# EAGLE library part LB1948MC (library talons-actuation)
ON Semiconductor LB1948MC: Two Channel 12V Motor Driver Manufacturer <http://www.onsemi.com/PowerSolutions/product.do?id=LB1948MC> Octopart <https://octopart.com/lb1948mc-ah-on+semiconductor-22302631> Farnell.de <http://de.farnell.com/on-semiconductor/lb1948mc-ah/treiber-motor-2ch-fwd-rvrs-mfp10sk/dp/2137871>
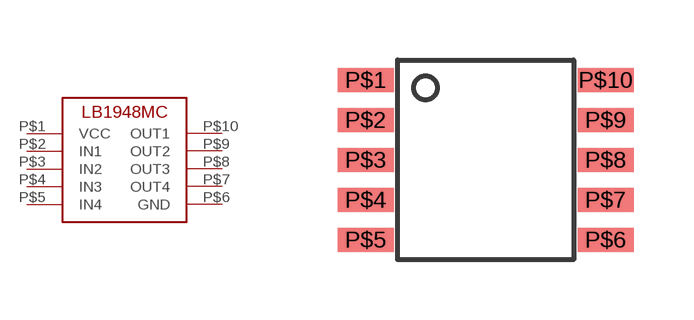
[diagram p3: symbol with the pads of SOIC-10; footprint SOIC-10]

Designator prefix -

## LB1948MC  [SOIC-10]
P$1  VCC  pwr
P$2  IN1  in
P$3  IN2  in
P$4  IN3  in
P$5  IN4  in
P$6  GND  pwr
P$7  OUT4  out
P$8  OUT3  out
P$9  OUT2  out
P$10  OUT1  out

## Footprint SOIC-10 (pad centres in mm)
smd 1.4 x 0.6: P$1 -3,2; P$2 -3,1; P$3 -3,0; P$4 -3,-1; P$5 -3,-2; P$6 3,-2; P$7 3,-1; P$8 3,0; P$9 3,1; P$10 3,2